# Altium footprint library SmallJu_PCB_Lib.PcbLib: 29 footprints (part 1 of 2)
Each footprint in its own frame and in the unit in brackets; x right, y up, seen from the top. Pads: shape width x height; smd on the part's side, far side on the other; paste and mask are expansions set on the pad; w line width, h text height; cw(c..) or ccw(c..) is an arc to the next point about the centre after c.
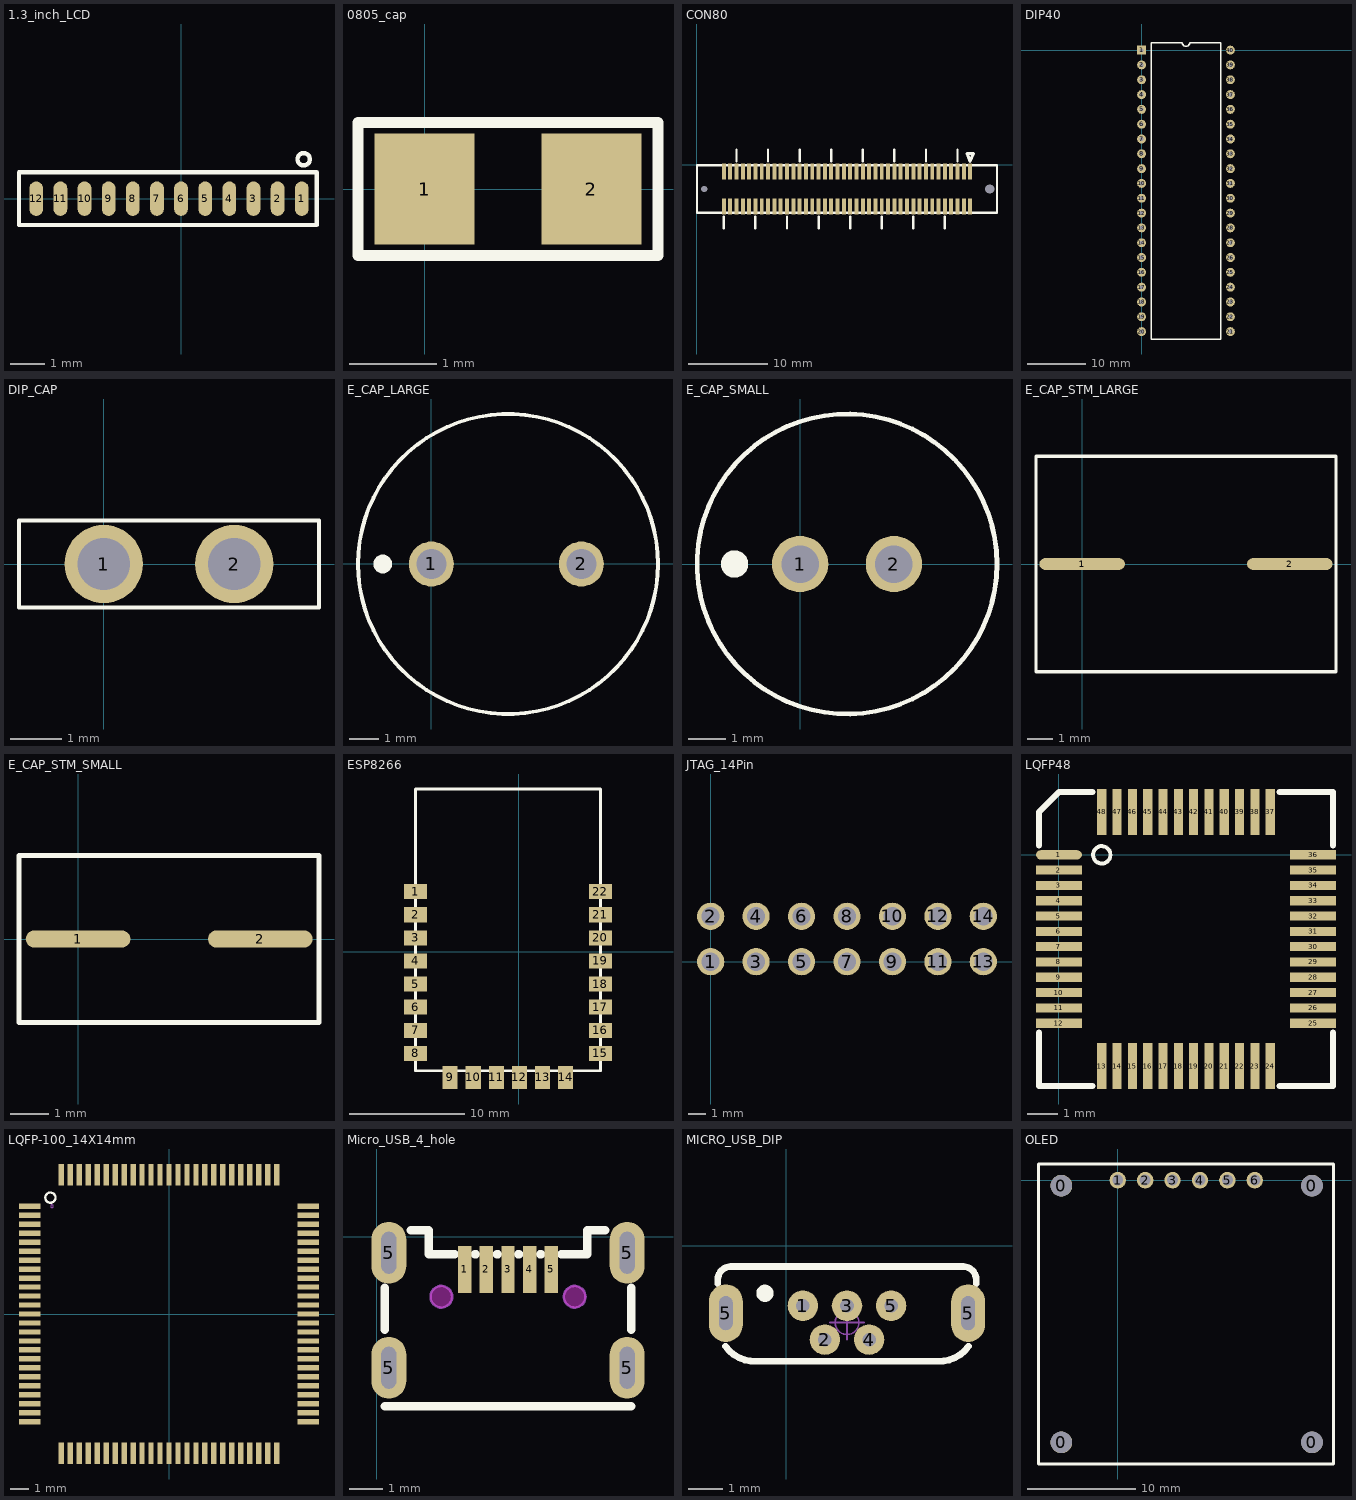
[diagram p0: the footprints below, top view; thin cyan lines are the x and y axes]

## 1.3_inch_LCD [mm]
pads (12):
  oval 0.4x1 smd: 1(3.5,0) 2(2.8,0) 3(2.1,0) 4(1.4,0) 5(0.7,0) 6(0,0) 7(-0.7,0) 8(-1.4,0) 9(-2.1,0) 10(-2.8,0) 11(-3.5,0) 12(-4.2,0)
Top Overlay:
  circle w0.127: c3.556,1.143 r0.18
  region: 1.905,1.143
  lines w0.127: -4.699,-0.762 -4.699,0.635 -4.699,0.762 3.937,0.762 3.937,-0.762 -4.699,-0.762

## 0805_cap [mil] "0805;STM;cap;"
pads (2):
  rect 45x50 smd: 1(0,0) 2(75,0)
Top Overlay:
  lines w5: -30,-30 -30,30 105,30 105,-30 -30,-30
3D body "CAPC2012(0805).STEP": height 37.4, standoff 0, extent -4.36,-23.62 74.38,23.63

## CON80 [mm]
pads (82):
  rect 0.5x2 smd: 1(34.65,-0.848) 2(34.65,-5.248) 3(33.85,-0.848) 4(33.85,-5.248) 5(33.05,-0.848) 6(33.05,-5.248) 7(32.25,-0.848) 8(32.25,-5.248) 9(31.45,-0.848) 10(31.45,-5.248) 11(30.65,-0.848) 12(30.65,-5.248) 13(29.85,-0.848) 14(29.85,-5.248) 15(29.05,-0.848) 16(29.05,-5.248) 17(28.25,-0.848) 18(28.25,-5.248) 19(27.45,-0.848) 20(27.45,-5.248) 21(26.65,-0.848) 22(26.65,-5.248) 23(25.85,-0.848) 24(25.85,-5.248) 25(25.05,-0.848) 26(25.05,-5.248) 27(24.25,-0.848) 28(24.25,-5.248) 29(23.45,-0.848) 30(23.45,-5.248) 31(22.65,-0.848) 32(22.65,-5.248) 33(21.85,-0.848) 34(21.85,-5.248) 35(21.05,-0.848) 36(21.05,-5.248) 37(20.25,-0.848) 38(20.25,-5.248) 39(19.45,-0.848) 40(19.45,-5.248) 41(18.65,-0.848) 42(18.65,-5.248) 43(17.85,-0.848) 44(17.85,-5.248) 45(17.05,-0.848) 46(17.05,-5.248) 47(16.25,-0.848) 48(16.25,-5.248) 49(15.45,-0.848) 50(15.45,-5.248) 51(14.65,-0.848) 52(14.65,-5.248) 53(13.85,-0.848) 54(13.85,-5.248) 55(13.05,-0.848) 56(13.05,-5.248) 57(12.25,-0.848) 58(12.25,-5.248) 59(11.45,-0.848) 60(11.45,-5.248) 61(10.65,-0.848) 62(10.65,-5.248) 63(9.85,-0.848) 64(9.85,-5.248) 65(9.05,-0.848) 66(9.05,-5.248) 67(8.25,-0.848) 68(8.25,-5.248) 69(7.45,-0.848) 70(7.45,-5.248) 71(6.65,-0.848) 72(6.65,-5.248) 73(5.85,-0.848) 74(5.85,-5.248) 75(5.05,-0.848) 76(5.05,-5.248) 77(4.25,-0.848) 78(4.25,-5.248) 79(3.45,-0.848) 80(3.45,-5.248)
  round 0.5 hole 0.8 unplated: 81(0.95,-3.048)
  round 1 hole 1.2 unplated: 82(37.15,-3.048)
Top Overlay:
  lines w0.3: 3.45,-8.048 3.45,-6.548 ; 5.05,0.452 5.05,1.952 ; 7.45,-8.048 7.45,-6.548 ; 9.05,0.452 9.05,1.952 ; 11.45,-8.048 11.45,-6.548 ; 13.05,0.452 13.05,1.952 ; 15.45,-8.048 15.45,-6.548 ; 17.05,0.452 17.05,1.952 ; 19.45,-8.048 19.45,-6.548 ; 21.05,0.452 21.05,1.952 ; 23.45,-8.048 23.45,-6.548 ; 25.05,0.452 25.05,1.952 ; 27.45,-8.048 27.45,-6.548 ; 29.05,0.452 29.05,1.952 ; 31.45,-8.048 31.45,-6.548 ; 33.05,0.452 33.05,1.952 ; 0.05,-6.048 38.05,-6.048 38.05,-0.048 0.05,-0.048 0.05,-6.048
  lines w0.4: 34.25,1.452 35.05,1.452 34.65,0.452 34.25,1.452

## DIP40 [mil]
pads (40):
  rect 60x60 hole 25: 1(0,0)
  round 60 hole 25: 2(0,-100) 3(0,-200) 4(0,-300) 5(0,-400) 6(0,-500) 7(0,-600) 8(0,-700) 9(0,-800) 10(0,-900) 11(0,-1000) 12(0,-1100) 13(0,-1200) 14(0,-1300) 15(0,-1400) 16(0,-1500) 17(0,-1600) 18(0,-1700) 19(0,-1800) 20(0,-1900) 21(600,-1900) 22(600,-1800) 23(600,-1700) 24(600,-1600) 25(600,-1500) 26(600,-1400) 27(600,-1300) 28(600,-1200) 29(600,-1100) 30(600,-1000) 31(600,-900) 32(600,-800) 33(600,-700) 34(600,-600) 35(600,-500) 36(600,-400) 37(600,-300) 38(600,-200) 39(600,-100) 40(600,0)
Top Overlay:
  lines w10: 65,-1950 535,-1950 535,50 325,50 cw(c300,50) 275,50 65,50 65,-1950
3D body "DIP40.STEP": height 224.41, standoff -101.57, extent -4.93,-1982.48 604.92,82.48

## DIP_CAP [mil] "DIP;Cap;Small;non_extremity"
pads (2):
  round 60 hole 40: 1(0,0) 2(100,0)
Top Overlay:
  lines w3: -64.99,-33.39 165,-33.39 165,33.4 -64.99,33.4 -64.99,-33.39
3D body "CAP TR2.54.STEP": height 235, standoff -76.85, extent -64.99,-33.39 165,33.4

## E_CAP_LARGE [mil] "electrolytic condenser;10*12.5"
pads (2):
  round 60 hole 40: 1(0,0) 2(200,0)
Top Overlay:
  circle w15: c-65,0 r5
  circle w5: c102.14,0 r200
3D body "CAP PR5.0x10x12.5mm.STEP": height 512.81, standoff -136.91, extent -95.7,-197.85 300,197.85

## E_CAP_SMALL [mil] "electrolytic condenser;8*12;(220uF)"
pads (2):
  round 60 hole 40: 1(0,0) 2(100,0)
Top Overlay:
  circle w15: c-70,0 r7.07
  circle w5: c50,0 r160
3D body "CAP PR2.5x8x12.STEP": height 477.17, standoff -393.56, extent -109.69,-159.69 210,160

## E_CAP_STM_LARGE [mm] "electrolytic condenser;STM;⊕8~10"
pads (2):
  oval 3.3x0.45 smd: 1(0,0) 2(8,0)
Top Overlay:
  lines w0.127: -1.778,-4.15 -1.778,4.15 9.779,4.15 9.779,-4.15 8.437,-4.15 -1.778,-4.15
  text "." at -3.048,-3.048 h1
3D body "CAPE-E.STEP": height 6.2, standoff 0, extent -0.436,-4.15 8.564,4.15

## E_CAP_STM_SMALL [mm] "electrolytic condenser;STM;⊕4~6.6"
pads (2):
  oval 2.7x0.45 smd: 1(0,0) 2(4.7,0)
Top Overlay:
  lines w0.127: -1.524,-2.15 -1.524,2.15 6.214,2.15 6.214,-2.15 -1.524,-2.15
  text "." at -2.413,-1.778 h1
3D body "CAPE-B.STEP": height 5.4, standoff 0, extent 0.113,-2.15 4.713,2.15

## ESP8266 [mm] "ESP8266"
height 6.86
pads (22):
  rect 2x1.3 smd: 1(-8.94,5.219) 2(-8.94,3.219) 3(-8.94,1.219) 4(-8.94,-0.781) 5(-8.94,-2.781) 6(-8.94,-4.781) 7(-8.94,-6.781) 8(-8.94,-8.781) 15(7.06,-8.781) 16(7.06,-6.781) 17(7.06,-4.781) 18(7.06,-2.781) 19(7.06,-0.781) 20(7.06,1.219) 21(7.06,3.219) 22(7.06,5.219)
  rect 1.3x2 smd: 9(-5.947,-10.857) 10(-3.947,-10.857) 11(-1.947,-10.857) 12(0.053,-10.857) 13(2.053,-10.857) 14(4.053,-10.857)
Top Overlay:
  lines w0.24: -8.94,-10.281 -8.94,11.219 -8.94,14.073 -8.915,14.097 -2.062,14.097 0.182,14.097 7.036,14.097 7.06,14.073 7.06,11.219 7.06,-10.275 -8.94,-10.275
3D body "User Library-ESP8266-12E.STEP": height 2.6, standoff -0.4, extent -8.94,-10.262 7.06,14.118

## JTAG_14Pin [mil]
pads (14):
  round 60 hole 40: 1(0,0) 2(0,100) 3(100,0) 4(100,100) 5(200,0) 6(200,100) 7(300,0) 8(300,100) 9(400,0) 10(400,100) 11(500,0) 12(500,100) 13(600,0) 14(600,100)

## LQFP48 [mm] "LQFP48"
pads (48):
  oval 1.5x0.3 smd: 1(0,0)
  rect 1.5x0.3 smd: 2(0,-0.5) 3(0,-1) 4(0,-1.5) 5(0,-2) 6(0,-2.5) 7(0,-3) 8(0,-3.5) 9(0,-4) 10(0,-4.5) 11(0,-5) 12(0,-5.5) 25(8.3,-5.5) 26(8.3,-5) 27(8.3,-4.5) 28(8.3,-4) 29(8.3,-3.5) 30(8.3,-3) 31(8.3,-2.5) 32(8.3,-2) 33(8.3,-1.5) 34(8.3,-1) 35(8.3,-0.5) 36(8.3,0)
  rect 0.3x1.5 smd: 13(1.4,-6.9) 14(1.9,-6.9) 15(2.4,-6.9) 16(2.9,-6.9) 17(3.4,-6.9) 18(3.9,-6.9) 19(4.4,-6.9) 20(4.9,-6.9) 21(5.4,-6.9) 22(5.9,-6.9) 23(6.4,-6.9) 24(6.9,-6.9) 37(6.9,1.4) 38(6.4,1.4) 39(5.9,1.4) 40(5.4,1.4) 41(4.9,1.4) 42(4.4,1.4) 43(3.9,1.4) 44(3.4,1.4) 45(2.9,1.4) 46(2.4,1.4) 47(1.9,1.4) 48(1.4,1.4)
Top Overlay:
  circle w0.127: c1.397,0 r0.284
  lines w0.2: -0.65,-5.8 -0.65,-7.55 1.1,-7.55 ; -0.65,0.3 -0.65,1.4 0,2.05 1.1,2.05 ; 7.2,-7.55 8.95,-7.55 8.95,-5.8 ; 7.2,2.05 8.95,2.05 8.95,0.3
3D body "LQFP7X7-48.STEP": height 1.56, standoff 0, extent -0.334,-7.23 8.666,1.77

## LQFP-100_14X14mm [mm]
pads (100):
  rect 1.2x0.3 smd: 1(-7.75,6) 2(-7.75,5.5) 3(-7.75,5) 4(-7.75,4.5) 5(-7.75,4) 6(-7.75,3.5) 7(-7.75,3) 8(-7.75,2.5) 9(-7.75,2) 10(-7.75,1.5) 11(-7.75,1) 12(-7.75,0.5) 13(-7.75,0) 14(-7.75,-0.5) 15(-7.75,-1) 16(-7.75,-1.5) 17(-7.75,-2) 18(-7.75,-2.5) 19(-7.75,-3) 20(-7.75,-3.5) 21(-7.75,-4) 22(-7.75,-4.5) 23(-7.75,-5) 24(-7.75,-5.5) 25(-7.75,-6) 51(7.75,-6) 52(7.75,-5.5) 53(7.75,-5) 54(7.75,-4.5) 55(7.75,-4) 56(7.75,-3.5) 57(7.75,-3) 58(7.75,-2.5) 59(7.75,-2) 60(7.75,-1.5) 61(7.75,-1) 62(7.75,-0.5) 63(7.75,0) 64(7.75,0.5) 65(7.75,1) 66(7.75,1.5) 67(7.75,2) 68(7.75,2.5) 69(7.75,3) 70(7.75,3.5) 71(7.75,4) 72(7.75,4.5) 73(7.75,5) 74(7.75,5.5) 75(7.75,6)
  rect 0.3x1.2 smd: 26(-6,-7.75) 27(-5.5,-7.75) 28(-5,-7.75) 29(-4.5,-7.75) 30(-4,-7.75) 31(-3.5,-7.75) 32(-3,-7.75) 33(-2.5,-7.75) 34(-2,-7.75) 35(-1.5,-7.75) 36(-1,-7.75) 37(-0.5,-7.75) 38(0,-7.75) 39(0.5,-7.75) 40(1,-7.75) 41(1.5,-7.75) 42(2,-7.75) 43(2.5,-7.75) 44(3,-7.75) 45(3.5,-7.75) 46(4,-7.75) 47(4.5,-7.75) 48(5,-7.75) 49(5.5,-7.75) 50(6,-7.75) 76(6,7.75) 77(5.5,7.75) 78(5,7.75) 79(4.5,7.75) 80(4,7.75) 81(3.5,7.75) 82(3,7.75) 83(2.5,7.75) 84(2,7.75) 85(1.5,7.75) 86(1,7.75) 87(0.5,7.75) 88(0,7.75) 89(-0.5,7.75) 90(-1,7.75) 91(-1.5,7.75) 92(-2,7.75) 93(-2.5,7.75) 94(-3,7.75) 95(-3.5,7.75) 96(-4,7.75) 97(-4.5,7.75) 98(-5,7.75) 99(-5.5,7.75) 100(-6,7.75)
Top Overlay:
  circle w0.127: c-6.604,6.477 r0.284
Mechanical 13:
  circle w0: c-6.515,6 r0.076
3D body "LQFP-100_14X14mm.stp": height 1.6, standoff 0, extent -8,-8 8,8

## Micro_USB_4_hole [mm] "Micro USB;Type B;STM;4 Hole with extra guid hole"
pads (9):
  rect 0.4x1.4 smd: 1(2.637,-0.98) 2(3.287,-0.98) 3(3.937,-0.98) 4(4.587,-0.98) 5(5.237,-0.98)
  oval 1.05x1.85 hole 0.45 slot 1.25 at 90 deg unplated: 5(0.362,-3.93) 5(0.362,-0.48) 5(7.512,-3.93) 5(7.512,-0.48)
Top Overlay:
  lines w0.254: 0.237,-5.08 7.637,-5.08 ; 0.237,-2.794 0.237,-1.524 ; 1.016,0.19 1.562,0.19 1.562,-0.52 2.337,-0.52 ; 2.937,-0.52 2.977,-0.52 ; 3.597,-0.52 3.637,-0.52 ; 4.237,-0.52 4.277,-0.52 ; 4.897,-0.52 4.937,-0.52 ; 5.537,-0.52 6.312,-0.52 6.312,0.19 6.858,0.19 ; 7.637,-2.794 7.637,-1.524
Keep-Out Layer:
  board cut-out: 1.612,-1.8 1.612,-1.865 1.661,-1.984 1.753,-2.076 1.872,-2.125 1.937,-2.125 2.002,-2.125 2.121,-2.076 2.213,-1.984 2.262,-1.865 2.262,-1.8 2.262,-1.735 2.213,-1.616 2.121,-1.524 2.002,-1.475 1.937,-1.475 1.872,-1.475 1.753,-1.524 1.661,-1.616 1.612,-1.735
  board cut-out: 5.612,-1.8 5.612,-1.865 5.661,-1.984 5.753,-2.076 5.872,-2.125 5.937,-2.125 6.002,-2.125 6.121,-2.076 6.213,-1.984 6.262,-1.865 6.262,-1.8 6.262,-1.735 6.213,-1.616 6.121,-1.524 6.002,-1.475 5.937,-1.475 5.872,-1.475 5.753,-1.524 5.661,-1.616 5.612,-1.735
Mechanical 1:
  circle w0.076: c1.937,-1.8 r0.325
  circle w0.076: c5.937,-1.8 r0.325

## MICRO_USB_DIP [mm] "Micro USB;Type B;DIP;straight"
pads (7):
  round 0.9 hole 0.4: 1(0.486,-1.761) 2(1.136,-2.761) 3(1.786,-1.761) 4(2.436,-2.761) 5(3.086,-1.761)
  oval 1x1.7 hole 0.4 slot 1 at 90 deg: 5(-1.789,-1.981) 5(5.361,-1.981)
Top Overlay:
  circle w0.254: c-0.635,-1.397 r0.127
  lines w0.2: -2.024,-1.118 -2.024,-0.991 cw(c-1.643,-0.991) -1.643,-0.61 -1.389,-0.61 -1.008,-0.61 4.58,-0.61 4.961,-0.61 5.215,-0.61 cw(c5.215,-0.991) 5.596,-0.991 5.596,-1.118 ; -1.801,-2.958 ccw(c-0.932,-2.337) -0.881,-3.404 ; -0.843,-3.404 -0.627,-3.404 4.199,-3.404 4.453,-3.404 ccw(c4.504,-2.337) 5.373,-2.958
Mechanical 15:
  circle w0.05: c1.786,-2.261 r0.35
  lines w0.05: 1.286,-2.261 2.286,-2.261 ; 1.786,-2.761 1.786,-1.761
3D body "USB micro_C.STEP": height 5.65, standoff -1.55, extent -2.215,-3.467 5.787,-0.494

## OLED [mil]
pads (10):
  round 78.74 hole 78.74: 0(-205.63,-956.69) 0(-205.63,-20) 0(708.66,-956.69) 0(708.66,-20)
  round 60 hole 40: 1(0,0) 2(100,0) 3(200,0) 4(300,0) 5(400,0) 6(500,0)
Top Overlay:
  lines w10: -289.37,-1035.43 -289.37,59.06 787.4,59.06 787.4,-1035.43 -289.37,-1035.43